# EAGLE library part KLEMME-2_6-BRUECKE (library e-klemmen)
Klemme 6-pol. mit Brückenhinweis
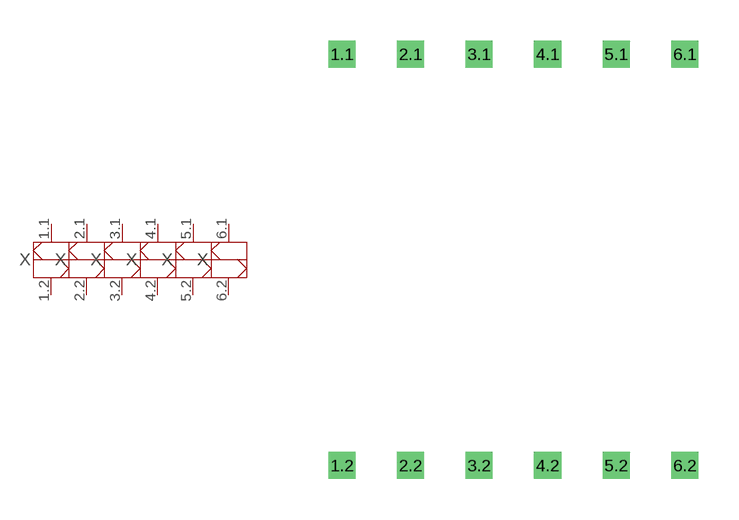
[diagram p90: symbol with the pads of KLEMME-2_6-BRUECKE; footprint KLEMME-2_6-BRUECKE]

Designator prefix X; gates 1=KLEMME-2_1-BRUECKE 2=KLEMME-2_2-BRUECKE 3=KLEMME-2_3-BRUECKE 4=KLEMME-2_4-BRUECKE 5=KLEMME-2_5-BRUECKE 6=KLEMME-2_6-BRUECKE

## KLEMME-2_6-BRUECKE  [KLEMME-2_6-BRUECKE]
1.1  1:1  pas
1.2  1:2  pas
2.1  2:1  pas
2.2  2:2  pas
3.1  3:1  pas
3.2  3:2  pas
4.1  4:1  pas
4.2  4:2  pas
5.1  5:1  pas
5.2  5:2  pas
6.1  6:1  pas
6.2  6:2  pas

## Footprint KLEMME-2_6-BRUECKE (pad centres in mm)
Dummy
drill 0.5 pad 1 square: 1.1 0,0; 1.2 0,-15.24; 2.1 2.54,0; 2.2 2.54,-15.24; 3.1 5.08,0; 3.2 5.08,-15.24; 4.1 7.62,0; 4.2 7.62,-15.24; 5.1 10.16,0; 5.2 10.16,-15.24; 6.1 12.7,0; 6.2 12.7,-15.24